# EAGLE library part SS-6488-FLS (library SS-6488-FLS)
Conn Modular Jack F 8 POS 2.54mm Solder RA Thru-Hole 8 Terminal 1 Port Source: Datasheet <https://www.arrow.com/en/products/ss-6488-fls/bel-group>
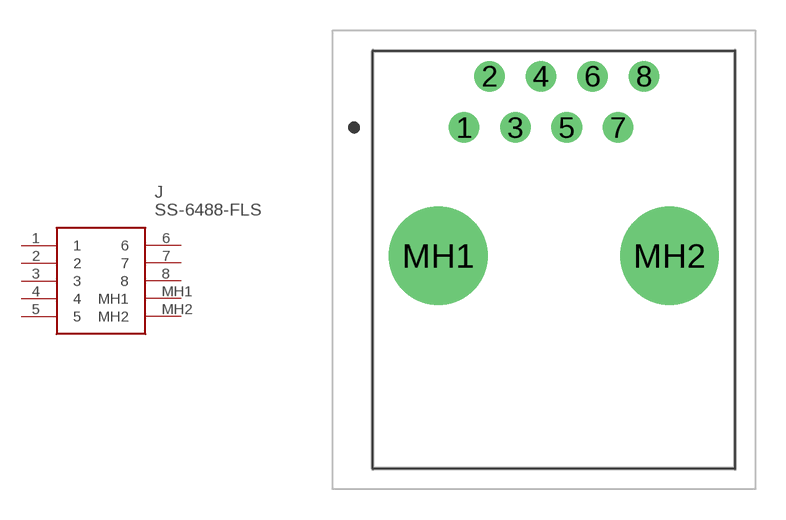
[diagram p0: symbol with the pads of SS6488FLS; footprint SS6488FLS]

Designator prefix J

## SS-6488-FLS (Arrow_Part_Number: SS-6488-FLS; Arrow_Price-Stock: https://www.arrow.com/en/products/ss-6488-fls/stewart-connector-systems; Description: Conn Modular Jack F 8 POS 2.54mm Solder RA Thru-Hole 8 Terminal 1 Port; Height: 12.82mm; Manufacturer_Name: Stewart Connector; Manufacturer_Part_Number: SS-6488-FLS; Mouser_Part_Number: 530-SS-6488-FLS; Mouser_Price-Stock: https://www.mouser.co.uk/ProductDetail/Stewart-Connector-Bel/SS-6488-FLS?qs=SRYZG9HaIQ3YBlnIutds%252BA%3D%3D)  [SS6488FLS]
1  1
2  2
3  3
4  4
5  5
6  6
7  7
8  8
MH1  MH1
MH2  MH2

## Footprint SS6488FLS (pad centres in mm)
SS-6488-FLS-2
drill 0.97 pad 1.509: 1 0,0; 2 1.27,2.54; 3 2.54,0; 4 3.81,2.54; 5 5.08,0; 6 6.35,2.54; 7 7.62,0; 8 8.89,2.54
drill 3.25 pad 4.875: MH1 -1.27,-6.35; MH2 10.16,-6.35